# Altium schematic symbol library HW_ADHERENT_SYSCTRL_R1_L3.SchLib: 1629 symbols (part 9 of 31)
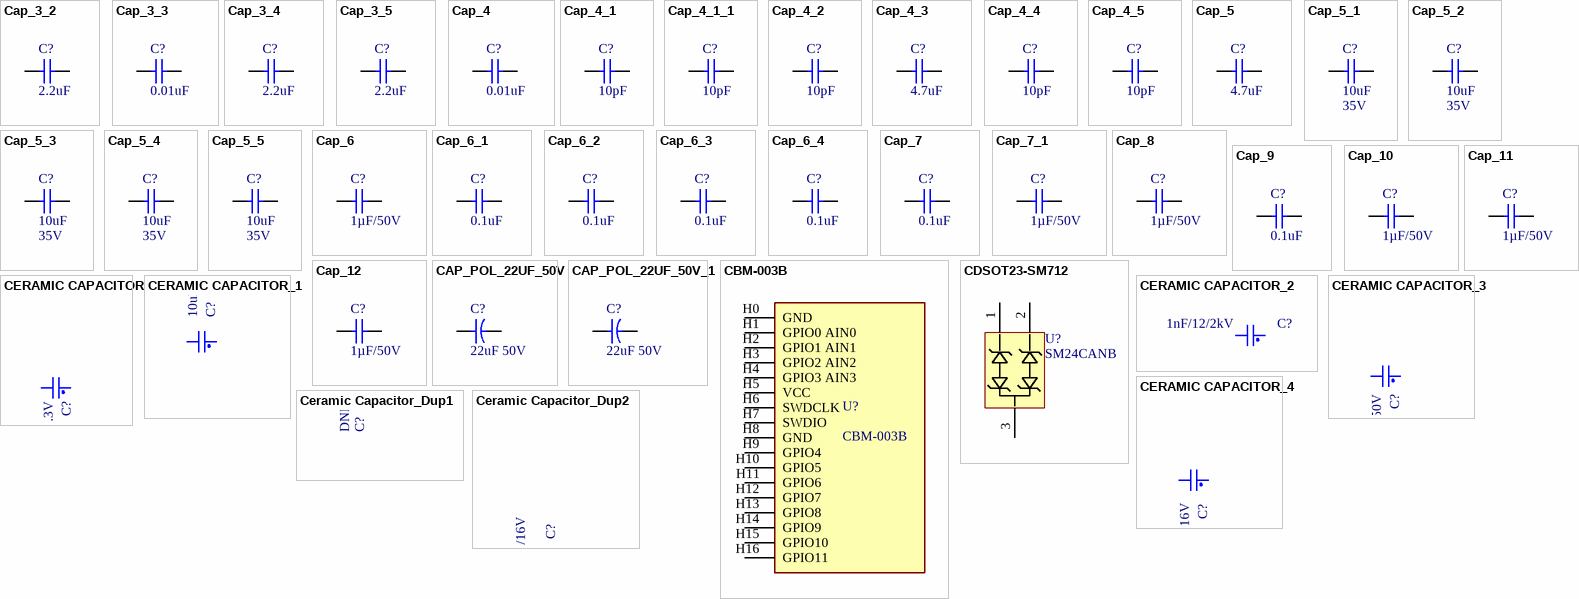
[diagram p59: symbols Cap_3_2 to Ceramic Capacitor_Dup2]

## Cap_5_5
designator C?, comment 10uF  Voltage Rating: 35V
MURATA - GRM319R6YA106KA12D - Condensador de Cerámica Multicapa, 10 µF, 35 V, 1206 [Métrica 3216], ± 10%, X5R, GRM Series; ComponentLink1URL: https://datasheet.ciiva.com/18102/getdatasheetpartid-85307-18102905.pdf?src-supplier=Verical; ComponentLink1Description: https://datasheet.ciiva.com/18102/getdatasheetpartid-85307-18102905.pdf?src-supplier=Verical; ComponentLink2URL: https://datasheet.ciiva.com/129/grm155r71c104ka88-01-129739.pdf?src-supplier=Digi-Key; ComponentLink2Description: https://datasheet.ciiva.com/129/grm155r71c104ka88-01-129739.pdf?src-supplier=Digi-Key; ComponentLink3URL: https://datasheet.ciiva.com/129/grm155r71c104ka88-01-129740.pdf?src-supplier=Digi-Key; ComponentLink3Description: https://datasheet.ciiva.com/129/grm155r71c104ka88-01-129740.pdf?src-supplier=Digi-Key; ComponentLink4URL: https://datasheet.ciiva.com/29199/454098-da-01-en-vs-kondensator-0402-29199799.pdf?src-supplier=Conrad; ComponentLink4Description: https://datasheet.ciiva.com/29199/454098-da-01-en-vs-kondensator-0402-29199799.pdf?src-supplier=Conrad; ComponentLink5URL: https://datasheet.ciiva.com/28534/4360-28534133.pdf?src-supplier=Element14; ComponentLink5Description: https://datasheet.ciiva.com/28534/4360-28534133.pdf?src-supplier=Element14; ComponentLink6URL: https://datasheet.ciiva.com/14103/grmseries-highdielectrictype-eng-14103750.pdf?src-supplier=Distrelec; ComponentLink6Description: https://datasheet.ciiva.com/14103/grmseries-highdielectrictype-eng-14103750.pdf?src-supplier=Distrelec; ComponentLink7URL: https://datasheet.ciiva.com/16199/product-16199000.pdf?src-supplier=Future+Electronics; ComponentLink7Description: https://datasheet.ciiva.com/16199/product-16199000.pdf?src-supplier=Future+Electronics; ComponentLink8URL: https://datasheet.ciiva.com/14116/grmseries-highdielectrictype-eng-14116878.pdf?src-supplier=Distrelec; ComponentLink8Description: https://datasheet.ciiva.com/14116/grmseries-highdielectrictype-eng-14116878.pdf?src-supplier=Distrelec; ComponentLink9URL: https://datasheet.ciiva.com/7937/4360-7937615.pdf?src-supplier=Element14; ComponentLink9Description: https://datasheet.ciiva.com/7937/4360-7937615.pdf?src-supplier=Element14; ComponentLink10URL: https://datasheet.ciiva.com/28534/4360-28534127.pdf?src-supplier=Element14; ComponentLink10Description: https://datasheet.ciiva.com/28534/4360-28534127.pdf?src-supplier=Element14; ComponentLink11URL: http://www.farnell.com/datasheets/2079151.pdf?src-supplier=Farnell; ComponentLink11Description: http://www.farnell.com/datasheets/2079151.pdf?src-supplier=Farnell; ComponentLink12URL: http://www.mouser.com/ds/2/281/c02e-2905.pdf?src-supplier=Mouser; ComponentLink12Description: http://www.mouser.com/ds/2/281/c02e-2905.pdf?src-supplier=Mouser; ComponentLink13URL: http://search.murata.co.jp/Ceramy/image/img/A01X/G101/ENG/GRM155R62A104KE14-01.pdf?src-supplier=Digi-Key; ComponentLink13Description: http://search.murata.co.jp/Ceramy/image/img/A01X/G101/ENG/GRM155R62A104KE14-01.pdf?src-supplier=Digi-Key; ComponentLink14URL: http://www.farnell.com/datasheets/2079151.pdf?src-supplier=Newark; ComponentLink14Description: http://www.farnell.com/datasheets/2079151.pdf?src-supplier=Newark; ComponentLink15URL: http://www.farnell.com/datasheets/2079151.pdf?src-supplier=Element14; ComponentLink15Description: http://www.farnell.com/datasheets/2079151.pdf?src-supplier=Element14; Supplier 1: Digi-Key; Supplier Part Number 1: 490-9964-1-ND; Manufacturer: Murata; Manufacturer Part Number: GRM319R6YA106KA12D; RoHS: Yes; Category: Ceramic Capacitors; Stock 1: 290042; Pricing 1: 1=0,34000, 10=0,23400, 50=0,16380, 100=0,14040, 500=0,10532, 1000=0,08893 (USD); Mount: Surface Mount; Case/Package: 1206; Case Code (Metric): 3216; Case Code (Imperial): 1206; Weight: 0.001411oz; Min Operating Temperature: -55°C; Max Operating Temperature: 85°C; Capacitance: 10uF; Packaging: Tape and Reel; Dielectric: X5R; Tolerance: 10%; Termination: SMD/SMT; Voltage Rating (DC): 35V; Package Quantity: 4000; Length: 0.126inch; Width: 1.6mm; Height: 0.85mm; Thickness: 0.037inch; REACH SVHC: No SVHC; RoHS Compliant: Yes; ComponentLink16URL: http://www.farnell.com/datasheets/2079193.pdf?src-supplier=Farnell; ComponentLink16Description: http://www.farnell.com/datasheets/2079193.pdf?src-supplier=Farnell; ComponentLink17URL: http://search.murata.co.jp/Ceramy/image/img/A01X/G101/ENG/GRM319R6YA106KA12-01.pdf?src-supplier=Digi-Key; ComponentLink17Description: http://search.murata.co.jp/Ceramy/image/img/A01X/G101/ENG/GRM319R6YA106KA12-01.pdf?src-supplier=Digi-Key; ComponentLink18URL: http://www.farnell.com/datasheets/2079193.pdf?src-supplier=Element14; ComponentLink18Description: http://www.farnell.com/datasheets/2079193.pdf?src-supplier=Element14
footprint RAD-0.3 (Radial Cap, Thru-Hole; 2 Leads; 0.3 in Pin Spacing)
simulation model CAP (Capacitor)
signal-integrity model Cap
footprint SMC0603
footprint C 1206(3216)x1.6
pins: 1, 2

## Cap_6
designator C?, comment 1µF/50V
CAP CER 1UF 50V X7R 1206; Manufacturer: KEMET; Manufacturer Part Number: C1206C105K5RAC7800; Value: 1µF/50V; Supplier Part Number: 399-C1206C105K5RAC7800CT-ND
footprint 1206_C (Footprint not found)
pins: 1, 2

## Cap_6_1
designator C?, comment 0.1uF
CAP CER 0.1UF 50V X7R 0402; Manufacturer: TDK Corporation; Manufacturer Part Number: C1005X7R1H104K050BB; Value: 0.1uF; Supplier Part Number: 445-5932-1-ND
footprint 0402_C (MODIFIED BY DN_MH - 16JAN17; CHECKED BY DN_TN - 18JAN17)
pins: 1, 2

## Cap_6_2
designator C?, comment 0.1uF
CAP CER 0.1UF 50V X7R 0402; Manufacturer: TDK Corporation; Manufacturer Part Number: C1005X7R1H104K050BB; Value: 0.1uF; Supplier Part Number: 445-5932-1-ND
footprint 0402_C (MODIFIED BY DN_MH - 16JAN17; CHECKED BY DN_TN - 18JAN17)
pins: 1, 2

## Cap_6_3
designator C?, comment 0.1uF
CAP CER 0.1UF 50V X7R 0402; Manufacturer: TDK Corporation; Manufacturer Part Number: C1005X7R1H104K050BB; Value: 0.1uF; Supplier Part Number: 445-5932-1-ND
footprint 0402_C (MODIFIED BY DN_MH - 16JAN17; CHECKED BY DN_TN - 18JAN17)
pins: 1, 2

## Cap_6_4
designator C?, comment 0.1uF
CAP CER 0.1UF 50V X7R 0402; Manufacturer: TDK Corporation; Manufacturer Part Number: C1005X7R1H104K050BB; Value: 0.1uF; Supplier Part Number: 445-5932-1-ND
footprint 0402_C (MODIFIED BY DN_MH - 16JAN17; CHECKED BY DN_TN - 18JAN17)
pins: 1, 2

## Cap_7
designator C?, comment 0.1uF
CAPACITOR CERAMIC, 0.1UF, 50V, X7R, 10%, 0603; Manufacturer: Yageo; Manufacturer Part Number: CC0603KRX7R9BB104; Capacitance: 100nF; ComponentLink1URL: https://datasheet.ciiva.com/18102/getdatasheetpartid-85307-18102905.pdf?src-supplier=Verical; ComponentLink1Description: https://datasheet.ciiva.com/18102/getdatasheetpartid-85307-18102905.pdf?src-supplier=Verical; ComponentLink2URL: https://datasheet.ciiva.com/129/grm155r71c104ka88-01-129739.pdf?src-supplier=Digi-Key; ComponentLink2Description: https://datasheet.ciiva.com/129/grm155r71c104ka88-01-129739.pdf?src-supplier=Digi-Key; ComponentLink3URL: https://datasheet.ciiva.com/129/grm155r71c104ka88-01-129740.pdf?src-supplier=Digi-Key; ComponentLink3Description: https://datasheet.ciiva.com/129/grm155r71c104ka88-01-129740.pdf?src-supplier=Digi-Key; ComponentLink4URL: https://datasheet.ciiva.com/29199/454098-da-01-en-vs-kondensator-0402-29199799.pdf?src-supplier=Conrad; ComponentLink4Description: https://datasheet.ciiva.com/29199/454098-da-01-en-vs-kondensator-0402-29199799.pdf?src-supplier=Conrad; ComponentLink5URL: https://datasheet.ciiva.com/28534/4360-28534133.pdf?src-supplier=Element14; ComponentLink5Description: https://datasheet.ciiva.com/28534/4360-28534133.pdf?src-supplier=Element14; ComponentLink6URL: https://datasheet.ciiva.com/14103/grmseries-highdielectrictype-eng-14103750.pdf?src-supplier=Distrelec; ComponentLink6Description: https://datasheet.ciiva.com/14103/grmseries-highdielectrictype-eng-14103750.pdf?src-supplier=Distrelec; ComponentLink7URL: https://datasheet.ciiva.com/16199/product-16199000.pdf?src-supplier=Future+Electronics; ComponentLink7Description: https://datasheet.ciiva.com/16199/product-16199000.pdf?src-supplier=Future+Electronics; ComponentLink8URL: https://datasheet.ciiva.com/14116/grmseries-highdielectrictype-eng-14116878.pdf?src-supplier=Distrelec; ComponentLink8Description: https://datasheet.ciiva.com/14116/grmseries-highdielectrictype-eng-14116878.pdf?src-supplier=Distrelec; ComponentLink9URL: https://datasheet.ciiva.com/7937/4360-7937615.pdf?src-supplier=Element14; ComponentLink9Description: https://datasheet.ciiva.com/7937/4360-7937615.pdf?src-supplier=Element14; ComponentLink10URL: https://datasheet.ciiva.com/28534/4360-28534127.pdf?src-supplier=Element14; ComponentLink10Description: https://datasheet.ciiva.com/28534/4360-28534127.pdf?src-supplier=Element14; ComponentLink11URL: http://www.farnell.com/datasheets/2079151.pdf?src-supplier=Farnell; ComponentLink11Description: http://www.farnell.com/datasheets/2079151.pdf?src-supplier=Farnell; ComponentLink12URL: http://www.mouser.com/ds/2/281/c02e-2905.pdf?src-supplier=Mouser; ComponentLink12Description: http://www.mouser.com/ds/2/281/c02e-2905.pdf?src-supplier=Mouser; ComponentLink13URL: http://search.murata.co.jp/Ceramy/image/img/A01X/G101/ENG/GRM155R62A104KE14-01.pdf?src-supplier=Digi-Key; ComponentLink13Description: http://search.murata.co.jp/Ceramy/image/img/A01X/G101/ENG/GRM155R62A104KE14-01.pdf?src-supplier=Digi-Key; ComponentLink14URL: http://www.farnell.com/datasheets/2079151.pdf?src-supplier=Newark; ComponentLink14Description: http://www.farnell.com/datasheets/2079151.pdf?src-supplier=Newark; ComponentLink15URL: http://www.farnell.com/datasheets/2079151.pdf?src-supplier=Element14; ComponentLink15Description: http://www.farnell.com/datasheets/2079151.pdf?src-supplier=Element14; Supplier 1: Digi-Key; Supplier Part Number 1: 311-1344-1-ND; RoHS: Yes; Category: Ceramic Capacitors; Stock 1: 13652525; Pricing 1: 1=0,10000, 10=0,06200, 50=0,03380, 100=0,02760, 500=0,01972, 1000=0,01550 (USD); Mount: Surface Mount; Case/Package: 0603; Number of Pins: 2; Case Code (Metric): 1608; Case Code (Imperial): 0603; Dielectric Material: Ceramic; Min Operating Temperature: -55°C; Max Operating Temperature: 125°C; Package Quantity: 1; Voltage Rating: 50V; Tolerance: 10%; Packaging: Tape and Reel; Dielectric: X7R; Termination: SMD/SMT; Voltage: 50V; Series: CC; Length: 1.6mm; Width: 0.031inch; Height: 0.8mm; Thickness: 0.035inch; Depth: 0.8mm; Radiation Hardening: No; REACH SVHC: No SVHC; Lead Free: Lead Free; Halogen Free: Halogen Free; RoHS Compliant: Yes; ComponentLink16URL: https://datasheet.ciiva.com/11786/0900766b80d84f1d-11786061.pdf?src-supplier=RSComponents; ComponentLink16Description: https://datasheet.ciiva.com/11786/0900766b80d84f1d-11786061.pdf?src-supplier=RSComponents; ComponentLink17URL: https://datasheet.ciiva.com/144/mlccorderingcode-144176.pdf?src-supplier=Digi-Key; ComponentLink17Description: https://datasheet.ciiva.com/144/mlccorderingcode-144176.pdf?src-supplier=Digi-Key; ComponentLink18URL: https://datasheet.ciiva.com/144/mlccorderingcode-144177.pdf?src-supplier=Digi-Key; ComponentLink18Description: https://datasheet.ciiva.com/144/mlccorderingcode-144177.pdf?src-supplier=Digi-Key; ComponentLink19URL: https://datasheet.ciiva.com/144/mlccorderingcode-144178.pdf?src-supplier=Digi-Key; ComponentLink19Description: https://datasheet.ciiva.com/144/mlccorderingcode-144178.pdf?src-supplier=Digi-Key; ComponentLink20URL: https://datasheet.ciiva.com/7978/1489800-7978166.pdf?src-supplier=Element14; ComponentLink20Description: https://datasheet.ciiva.com/7978/1489800-7978166.pdf?src-supplier=Element14; ComponentLink21URL: https://datasheet.ciiva.com/16625/upy-gphc-x7r-6-3v-to-50v-8-16625530.pdf?src-supplier=Avnet+Europe; ComponentLink21Description: https://datasheet.ciiva.com/16625/upy-gphc-x7r-6-3v-to-50v-8-16625530.pdf?src-supplier=Avnet+Europe; ComponentLink22URL: https://datasheet.ciiva.com/8033/70765-8033819.pdf?src-supplier=Element14; ComponentLink22Description: https://datasheet.ciiva.com/8033/70765-8033819.pdf?src-supplier=Element14; ComponentLink23URL: https://datasheet.ciiva.com/8033/70765-8033821.pdf?src-supplier=Element14; ComponentLink23Description: https://datasheet.ciiva.com/8033/70765-8033821.pdf?src-supplier=Element14; ComponentLink24URL: https://datasheet.ciiva.com/22749/1489800-22749214.pdf?src-supplier=Element14; ComponentLink24Description: https://datasheet.ciiva.com/22749/1489800-22749214.pdf?src-supplier=Element14; ComponentLink25URL: https://datasheet.ciiva.com/31394/1489800-31394927.pdf?src-supplier=Farnell; ComponentLink25Description: https://datasheet.ciiva.com/31394/1489800-31394927.pdf?src-supplier=Farnell
footprint RAD-0.3 (Radial Cap, Thru-Hole; 2 Leads; 0.3 in Pin Spacing)
simulation model CAP (Capacitor)
signal-integrity model Cap
footprint SMC0603
footprint C 0603(1608)x0.8_3
pins: 1, 2

## Cap_7_1
designator C?, comment 1µF/50V
CAP CER 1UF 50V X7R 1206; Manufacturer: KEMET; Manufacturer Part Number: C1206C105K5RAC7800; Value: 1µF/50V; Supplier Part Number: 399-C1206C105K5RAC7800CT-ND
footprint 1206_C (Footprint not found)
pins: 1, 2

## Cap_8
designator C?, comment 1µF/50V
CAP CER 1UF 50V X7R 1206; Manufacturer: KEMET; Manufacturer Part Number: C1206C105K5RAC7800; Value: 1µF/50V; Supplier Part Number: 399-C1206C105K5RAC7800CT-ND
footprint 1206_C (Footprint not found)
pins: 1, 2

## Cap_9
designator C?, comment 0.1uF
CAP CER 0.1UF 50V X7R 0402; Manufacturer: TDK Corporation; Manufacturer Part Number: C1005X7R1H104K050BB; Value: 0.1uF; Supplier Part Number: 445-5932-1-ND
footprint 0402_C (MODIFIED BY DN_MH - 16JAN17; CHECKED BY DN_TN - 18JAN17)
pins: 1, 2

## Cap_10
designator C?, comment 1µF/50V
CAP CER 1UF 50V X7R 1206; Manufacturer: KEMET; Manufacturer Part Number: C1206C105K5RAC7800; Value: 1µF/50V; Supplier Part Number: 399-C1206C105K5RAC7800CT-ND
footprint 1206_C (Footprint not found)
pins: 1, 2

## Cap_11
designator C?, comment 1µF/50V
CAP CER 1UF 50V X7R 1206; Manufacturer: KEMET; Manufacturer Part Number: C1206C105K5RAC7800; Value: 1µF/50V; Supplier Part Number: 399-C1206C105K5RAC7800CT-ND
footprint 1206_C (Footprint not found)
pins: 1, 2

## Cap_12
designator C?, comment 1µF/50V
CAP CER 1UF 50V X7R 1206; Manufacturer: KEMET; Manufacturer Part Number: C1206C105K5RAC7800; Value: 1µF/50V; Supplier Part Number: 399-C1206C105K5RAC7800CT-ND
footprint 1206_C (Footprint not found)
pins: 1, 2

## CAP_POL_22UF_50V
designator C?, comment value 22uF 50V  (hidden comment: 22uF 50V ±20% SMD,D6.3xL5.4mm Aluminum Electrolytic Capacitors - SMD ROHS)
Manufacturer Part Number: CS1H220M-CRE54; Order Code: LCSC: C98744; LCSC Manufacturer Part Number: CS1H220M-CRE54; LCSC Part Number: C98744
footprint CAP-SMD_BD6.3-L6.6-W6.6-FD
pins: 1, 2

## CAP_POL_22UF_50V_1
designator C?, comment value 22uF 50V  (hidden comment: 22uF 50V ±20% SMD,D6.3xL5.4mm Aluminum Electrolytic Capacitors - SMD ROHS)
Manufacturer Part Number: CS1H220M-CRE54; Order Code: LCSC: C98744; LCSC Manufacturer Part Number: CS1H220M-CRE54; LCSC Part Number: C98744
footprint CAP-SMD_BD6.3-L6.6-W6.6-FD
pins: 1, 2

## CBM-003B
designator U?
MP: CBM-003B; Check_prices: https://casambi.com/ecosystem/cbm-003/; Manufacturer Part Number: CBM-003B
footprint CBM-003B
pins: H0 GND (power), H1 GPIO0 AIN0, H2 GPIO1 AIN1, H3 GPIO2 AIN2, H4 GPIO3 AIN3, H5 VCC, H6 SWDCLK, H7 SWDIO, H8 GND, H9 GPIO4, H10 GPIO5, H11 GPIO6, H12 GPIO7, H13 GPIO8, H14 GPIO9, H15 GPIO10, H16 GPIO11

## CDSOT23-SM712
designator U?, comment SM24CANB
TVS DIODE 24VWM 50VC SOT23-3; Manufacturer: Littelfuse Inc.; Manufacturer Part Number: SM24CANB-02HTG; Value: SM24CANB; Supplier Part Number: F6707CT-ND
footprint SOT23-3
pins: 1, 2, 3

## CERAMIC CAPACITOR
designator C?, comment 22uF/6/6.3V
Ceramic Capacitor,22uF,6.3V,+/-20%,X5R,0603,Samsung; Manufacturer P/N: CL10A226MQ8NRNC; Myir P/N: 20401.00086; PCB Footprint: C0603; Part Type: Ceramic Capacitor; Manufacturer: Samsung; Reserve Value: 22uF; Datasheet: Samsung.pdf
footprint CAP0805
footprint C0603
pins: 1, 2

## CERAMIC CAPACITOR_1
designator C?, comment 10uF/6/16V
Ceramic Capacitor,10uF,+/-20%,X5R,16V,SMD,0603,Samsung; Manufacturer P/N: CL10A106MO8NQNC; Myir P/N: 20401.80062; PCB Footprint: C0603; Datasheet: Samsung.pdf; Reserve Value: 10uF; Manufacturer: Samsung; Part Type: Ceramic Capacitor
footprint CAP0805
footprint C0603
pins: 1, 2

## CERAMIC CAPACITOR_2
designator C?, comment 1nF/12/2kV
Ceramic Capacitor,1nF,+/-10%,2kV,X7R,SMD,1206,Fenghua; Manufacturer P/N: 1206B102K202NT; PCB Footprint: C1206; Myir P/N: 20401.00078; Datasheet: FENGHUA-Capacitor.pdf; Reserve Value: 1nF; Manufacturer: Fenghua; Part Type: Ceramic Capacitor
footprint CAP0805
footprint C1206
pins: 1, 2

## CERAMIC CAPACITOR_3
designator C?, comment 22pF/4/50V
Ceramic Capacitor,22pF,50V,+/-5%,C0G,0402,Fenghua; Manufacturer P/N: 0402CG220J500NT; Myir P/N: 20401.80101; PCB Footprint: C0402; Part Type: Ceramic Capacitor; Manufacturer: Fenghua; Reserve Value: 22pF; Datasheet: FENGHUA-Capacitor.pdf
footprint CAP0805
footprint C0402
pins: 1, 2

## CERAMIC CAPACITOR_4
designator C?, comment 100nF/4/16V
Ceramic Capacitor,100nF,16V,+/-10%,X7R,0402,Fenghua; Manufacturer P/N: 0402B104K160NT; Myir P/N: 20401.80188; PCB Footprint: C0402; Datasheet: FENGHUA-Capacitor.pdf; Reserve Value: 100nF; Manufacturer: Fenghua; Part Type: Ceramic Capacitor
footprint CAP0805
footprint C0402
pins: 1, 2

## Ceramic Capacitor_Dup1
designator C?, comment DNP
Ceramic Capacitor,100nF,16V,+/-10%,X7R,0402,Fenghua; Manufacturer P/N: 0402B104K160NT; PCB Footprint: C0402; Myir P/N: 20401.80188; Part Type: Ceramic Capacitor; Manufacturer: Fenghua; Reserve Value: 100nF; Datasheet: FENGHUA-Capacitor.pdf
footprint CAP0805
footprint C0402

## Ceramic Capacitor_Dup2
designator C?, comment 100nF/4/16V
Ceramic Capacitor,100nF,16V,+/-10%,X7R,0402,Fenghua; Manufacturer P/N: 0402B104K160NT; Myir P/N: 20401.80188; PCB Footprint: C0402; Part Type: Ceramic Capacitor; Manufacturer: Fenghua; Reserve Value: 100nF; Datasheet: FENGHUA-Capacitor.pdf
footprint CAP0805
footprint C0402

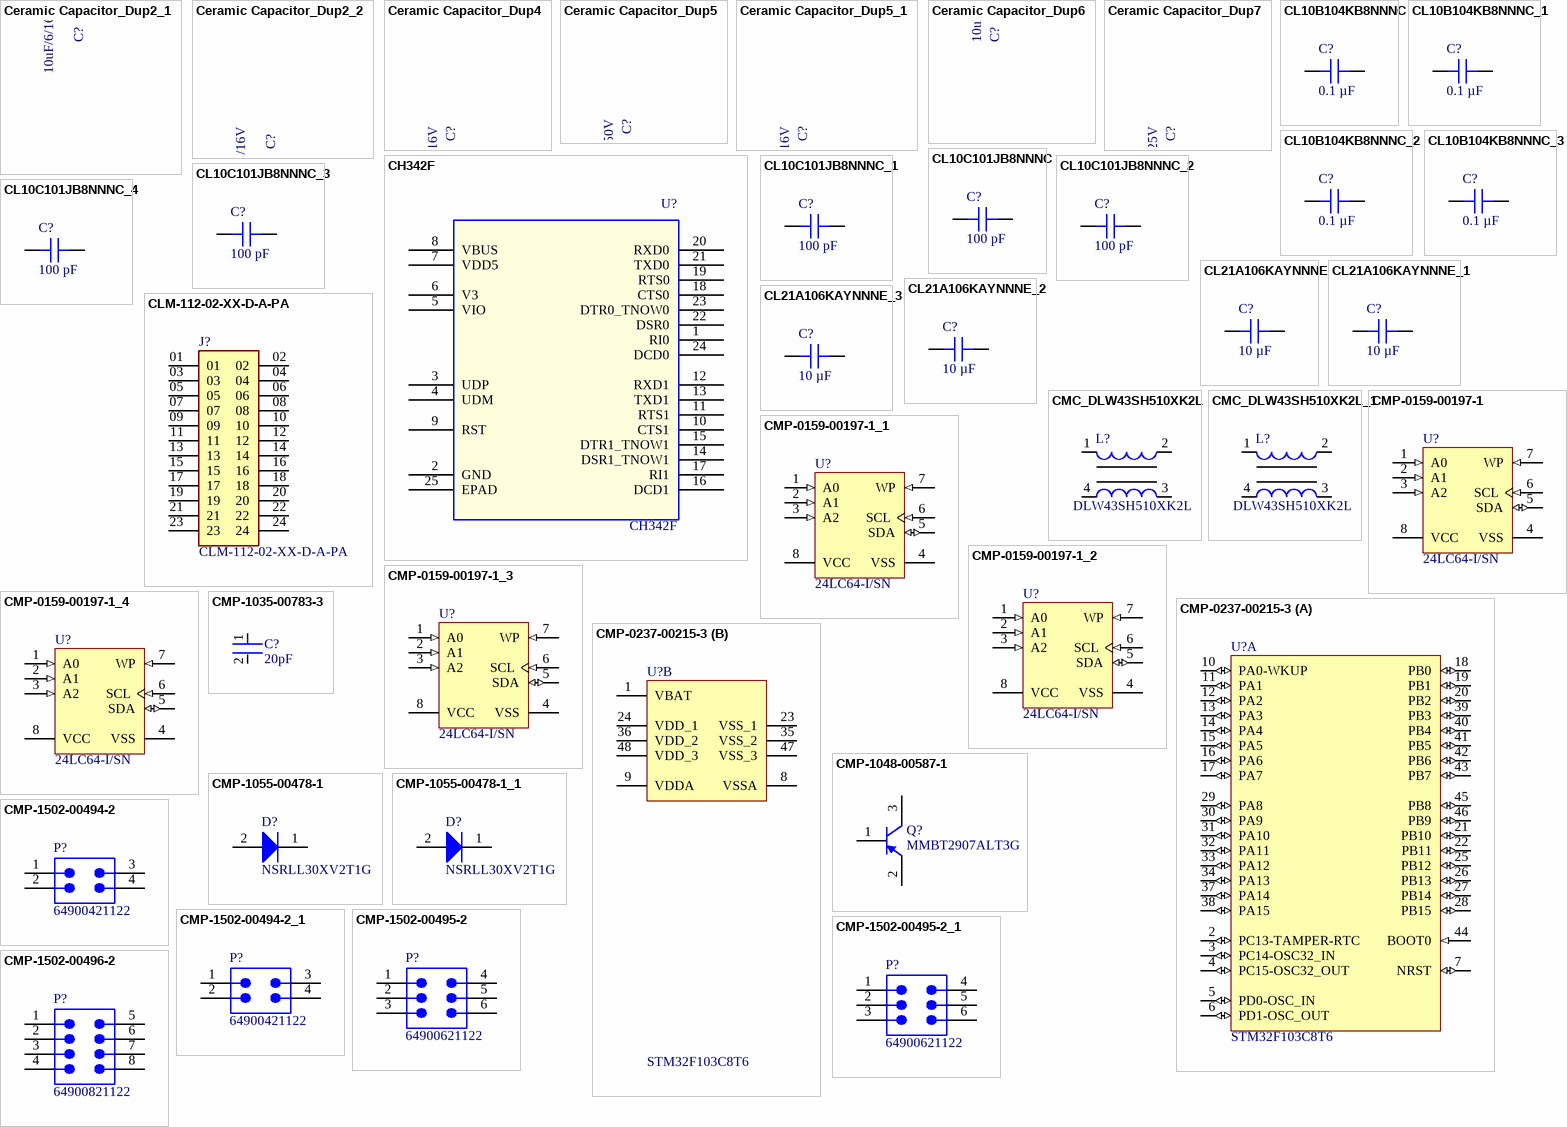
[diagram p12: symbols Ceramic Capacitor_Dup2_1 to CMP-1502-00496-2]

## Ceramic Capacitor_Dup2_1
designator C?, comment 10uF/6/16V
Ceramic Capacitor,10uF,+/-20%,X5R,16V,SMD,0603,Samsung; Manufacturer P/N: CL10A106MO8NQNC; Myir P/N: 20401.80062; PCB Footprint: C0603; Part Type: Ceramic Capacitor; Manufacturer: Samsung; Reserve Value: 10uF; Datasheet: Samsung.pdf
footprint CAP0805
footprint C0603

## Ceramic Capacitor_Dup2_2
designator C?, comment 4.7uF/6/16V
Ceramic Capacitor,4.7uF,+/-10%,X5R,16V,SMT,0603,Samsung; Manufacturer P/N: CL10A475KO8NNNC; Myir P/N: 20401.80066; PCB Footprint: C0603; Datasheet: Samsung.pdf; Reserve Value: 4.7uF; Manufacturer: Samsung; Part Type: Ceramic Capacitor
footprint CAP0805
footprint C0603

## Ceramic Capacitor_Dup4
designator C?, comment 100nF/4/16V
Ceramic Capacitor,100nF,16V,+/-10%,X7R,0402,Fenghua; Manufacturer P/N: 0402B104K160NT; Myir P/N: 20401.80188; PCB Footprint: C0402; Part Type: Ceramic Capacitor; Manufacturer: Fenghua; Reserve Value: 100nF; Datasheet: FENGHUA-Capacitor.pdf
footprint CAP0805
footprint C0402

## Ceramic Capacitor_Dup5
designator C?, comment 33pF/4/50V
Ceramic Capacitor,33pF,50V,+/-5%,C0G,0402,Fenghua; Manufacturer P/N: 0402CG330J500NT; Myir P/N: 20401.00091; PCB Footprint: C0402; Datasheet: FENGHUA-Capacitor.pdf; Reserve Value: 33pF; Manufacturer: Fenghua; Part Type: Ceramic Capacitor
footprint CAP0805
footprint C0402

## Ceramic Capacitor_Dup5_1
designator C?, comment 100nF/4/16V
Ceramic Capacitor,100nF,16V,+/-10%,X7R,0402,Fenghua; Manufacturer P/N: 0402B104K160NT; PCB Footprint: C0402; Myir P/N: 20401.80188; Part Type: Ceramic Capacitor; Manufacturer: Fenghua; Reserve Value: 100nF; Datasheet: FENGHUA-Capacitor.pdf
footprint CAP0805
footprint C0402

## Ceramic Capacitor_Dup6
designator C?, comment 10uF/6/16V
Ceramic Capacitor,10uF,+/-20%,X5R,16V,SMD,0603,Samsung; Manufacturer P/N: CL10A106MO8NQNC; PCB Footprint: C0603; Myir P/N: 20401.80062; Part Type: Ceramic Capacitor; Manufacturer: Samsung; Reserve Value: 10uF; Datasheet: Samsung.pdf
footprint CAP0805
footprint C0603

## Ceramic Capacitor_Dup7
designator C?, comment 22uF/12/25V
Ceramic Capacitor,22uF,25V,+/-10%,X5R,1206,Samsung; Manufacturer P/N: CL31A226KAHNNNE; Myir P/N: 20401.00064; PCB Footprint: C1206; Datasheet: Samsung.pdf; Reserve Value: 22uF; Manufacturer: Samsung; Part Type: Ceramic Capacitor
footprint CAP0805
footprint C1206

## CH342F
designator U?
IC,USB2.0 to Dual UART Ports,-40¡æ~+85¡æ,Industrial,SMD,QFN24,CH342F,Qinheng Micro; PCB Footprint: QFN24-0_5; Myir P/N: 20107.00089; Part Type: Interface; Manufacturer: Qinheng Micro; Manufacturer P/N: CH342F; Reserve Value: CH342F; Datasheet: CH342DS1.pdf
footprint QFN24_4*4
footprint QFN24-0_5
pins: 1 RI0, 2 GND, 3 UDP, 4 UDM, 5 VIO, 6 V3, 7 VDD5, 8 VBUS, 9 RST, 10 CTS1, 11 RTS1, 12 RXD1, 13 TXD1, 14 DSR1_TNOW1, 15 DTR1_TNOW1, 16 DCD1, 17 RI1, 18 CTS0, 19 RTS0, 20 RXD0, 21 TXD0, 22 DSR0, 23 DTR0_TNOW0, 24 DCD0, 25 EPAD (power)

## CL10B104KB8NNNC
designator C?, comment 0.1 µF
CAP CER 0.1UF 50V X7R 0603; Part Number: CL10B104KB8NNNC; manufacturer: Samsung Electro-Mechanics; Tolerance: ±10%; Value: 0.1 µF; Applications: General Purpose; Capacitance: 0.1 µF; componentlink1description: Datasheet; componentlink1url: http://www.samsungsem.com/kr/support/product-search/mlcc/CL10B104KB8NNNC.jsp; componentlink2description: DigiKey Link; componentlink2url: https://www.digikey.com/en/products/detail/samsung-electro-mechanics/CL10B104KB8NNNC/3886658; Device Package: 0603 (1608 Metric); lastupdated: 2/9/2024 8:10:20 PM; Lifecycle Status: Active; Minimum Order: 1; Mounting Type: Surface Mount, MLCC; Operating Temperature: -55°C ~ 125°C; Package / Case: 0603 (1608 Metric); packaging: TapeAndReel; partid: 9788; Part Status: Active; price: 0.01; series: CL; Size / Dimension: 0.063" L x 0.031" W (1.60mm x 0.80mm); Supplier 1: DigiKey; Supplier Part Number 1: 1276-1000-1-ND; Temperature Coefficient: X7R; Thickness (Max): 0.035" (0.90mm); Voltage - Rated: 50V
footprint CAP 0603_1608
pins: 1, 2

## CL10B104KB8NNNC_1
designator C?, comment 0.1 µF
CAP CER 0.1UF 50V X7R 0603; Part Number: CL10B104KB8NNNC; manufacturer: Samsung Electro-Mechanics; Tolerance: ±10%; Value: 0.1 µF; Applications: General Purpose; Capacitance: 0.1 µF; componentlink1description: Datasheet; componentlink1url: http://www.samsungsem.com/kr/support/product-search/mlcc/CL10B104KB8NNNC.jsp; componentlink2description: DigiKey Link; componentlink2url: https://www.digikey.com/en/products/detail/samsung-electro-mechanics/CL10B104KB8NNNC/3886658; Device Package: 0603 (1608 Metric); lastupdated: 2/9/2024 8:10:20 PM; Lifecycle Status: Active; Minimum Order: 1; Mounting Type: Surface Mount, MLCC; Operating Temperature: -55°C ~ 125°C; Package / Case: 0603 (1608 Metric); packaging: TapeAndReel; partid: 9788; Part Status: Active; price: 0.01; series: CL; Size / Dimension: 0.063" L x 0.031" W (1.60mm x 0.80mm); Supplier 1: DigiKey; Supplier Part Number 1: 1276-1000-1-ND; Temperature Coefficient: X7R; Thickness (Max): 0.035" (0.90mm); Voltage - Rated: 50V
footprint CAP 0603_1608
pins: 1, 2

## CL10B104KB8NNNC_2
designator C?, comment 0.1 µF
CAP CER 0.1UF 50V X7R 0603; Part Number: CL10B104KB8NNNC; manufacturer: Samsung Electro-Mechanics; Tolerance: ±10%; Value: 0.1 µF; Applications: General Purpose; Capacitance: 0.1 µF; componentlink1description: Datasheet; componentlink1url: http://www.samsungsem.com/kr/support/product-search/mlcc/CL10B104KB8NNNC.jsp; componentlink2description: DigiKey Link; componentlink2url: https://www.digikey.com/en/products/detail/samsung-electro-mechanics/CL10B104KB8NNNC/3886658; Device Package: 0603 (1608 Metric); lastupdated: 2/9/2024 8:10:20 PM; Lifecycle Status: Active; Minimum Order: 1; Mounting Type: Surface Mount, MLCC; Operating Temperature: -55°C ~ 125°C; Package / Case: 0603 (1608 Metric); packaging: TapeAndReel; partid: 9788; Part Status: Active; price: 0.01; series: CL; Size / Dimension: 0.063" L x 0.031" W (1.60mm x 0.80mm); Supplier 1: DigiKey; Supplier Part Number 1: 1276-1000-1-ND; Temperature Coefficient: X7R; Thickness (Max): 0.035" (0.90mm); Voltage - Rated: 50V
footprint CAP 0603_1608
pins: 1, 2

## CL10B104KB8NNNC_3
designator C?, comment 0.1 µF
CAP CER 0.1UF 50V X7R 0603; Part Number: CL10B104KB8NNNC; manufacturer: Samsung Electro-Mechanics; Tolerance: ±10%; Value: 0.1 µF; Applications: General Purpose; Capacitance: 0.1 µF; componentlink1description: Datasheet; componentlink1url: http://www.samsungsem.com/kr/support/product-search/mlcc/CL10B104KB8NNNC.jsp; componentlink2description: DigiKey Link; componentlink2url: https://www.digikey.com/en/products/detail/samsung-electro-mechanics/CL10B104KB8NNNC/3886658; Device Package: 0603 (1608 Metric); lastupdated: 2/9/2024 8:10:20 PM; Lifecycle Status: Active; Minimum Order: 1; Mounting Type: Surface Mount, MLCC; Operating Temperature: -55°C ~ 125°C; Package / Case: 0603 (1608 Metric); packaging: TapeAndReel; partid: 9788; Part Status: Active; price: 0.01; series: CL; Size / Dimension: 0.063" L x 0.031" W (1.60mm x 0.80mm); Supplier 1: DigiKey; Supplier Part Number 1: 1276-1000-1-ND; Temperature Coefficient: X7R; Thickness (Max): 0.035" (0.90mm); Voltage - Rated: 50V
footprint CAP 0603_1608
pins: 1, 2

## CL10C101JB8NNNC
designator C?, comment 100 pF
CAP CER 100PF 50V C0G/NP0 0603; Part Number: CL10C101JB8NNNC; manufacturer: Samsung Electro-Mechanics; Temperature Coefficient: C0G, NP0; Tolerance: ±5%; Value: 100 pF; Applications: General Purpose; Capacitance: 100 pF; componentlink1description: Datasheet; componentlink1url: http://www.samsungsem.com/kr/support/product-search/mlcc/CL10C101JB8NNNC.jsp; componentlink2description: DigiKey Link; componentlink2url: https://www.digikey.com/en/products/detail/samsung-electro-mechanics/CL10C101JB8NNNC/3886666; Device Package: 0603 (1608 Metric); lastupdated: 2/9/2024 8:10:20 PM; Lifecycle Status: Active; Minimum Order: 1; Mounting Type: Surface Mount, MLCC; Operating Temperature: -55°C ~ 125°C; Package / Case: 0603 (1608 Metric); packaging: TapeAndReel; partid: 9903; Part Status: Active; price: 0.01; series: CL; Size / Dimension: 0.063" L x 0.031" W (1.60mm x 0.80mm); Supplier 1: DigiKey; Supplier Part Number 1: 1276-1008-1-ND; Thickness (Max): 0.035" (0.90mm); Voltage - Rated: 50V
footprint CAP 0603_1608
pins: 1, 2

## CL10C101JB8NNNC_1
designator C?, comment 100 pF
CAP CER 100PF 50V C0G/NP0 0603; Part Number: CL10C101JB8NNNC; manufacturer: Samsung Electro-Mechanics; Temperature Coefficient: C0G, NP0; Tolerance: ±5%; Value: 100 pF; Applications: General Purpose; Capacitance: 100 pF; componentlink1description: Datasheet; componentlink1url: http://www.samsungsem.com/kr/support/product-search/mlcc/CL10C101JB8NNNC.jsp; componentlink2description: DigiKey Link; componentlink2url: https://www.digikey.com/en/products/detail/samsung-electro-mechanics/CL10C101JB8NNNC/3886666; Device Package: 0603 (1608 Metric); lastupdated: 2/9/2024 8:10:20 PM; Lifecycle Status: Active; Minimum Order: 1; Mounting Type: Surface Mount, MLCC; Operating Temperature: -55°C ~ 125°C; Package / Case: 0603 (1608 Metric); packaging: TapeAndReel; partid: 9903; Part Status: Active; price: 0.01; series: CL; Size / Dimension: 0.063" L x 0.031" W (1.60mm x 0.80mm); Supplier 1: DigiKey; Supplier Part Number 1: 1276-1008-1-ND; Thickness (Max): 0.035" (0.90mm); Voltage - Rated: 50V
footprint CAP 0603_1608
pins: 1, 2

## CL10C101JB8NNNC_2
designator C?, comment 100 pF
CAP CER 100PF 50V C0G/NP0 0603; Part Number: CL10C101JB8NNNC; manufacturer: Samsung Electro-Mechanics; Temperature Coefficient: C0G, NP0; Tolerance: ±5%; Value: 100 pF; Applications: General Purpose; Capacitance: 100 pF; componentlink1description: Datasheet; componentlink1url: http://www.samsungsem.com/kr/support/product-search/mlcc/CL10C101JB8NNNC.jsp; componentlink2description: DigiKey Link; componentlink2url: https://www.digikey.com/en/products/detail/samsung-electro-mechanics/CL10C101JB8NNNC/3886666; Device Package: 0603 (1608 Metric); lastupdated: 2/9/2024 8:10:20 PM; Lifecycle Status: Active; Minimum Order: 1; Mounting Type: Surface Mount, MLCC; Operating Temperature: -55°C ~ 125°C; Package / Case: 0603 (1608 Metric); packaging: TapeAndReel; partid: 9903; Part Status: Active; price: 0.01; series: CL; Size / Dimension: 0.063" L x 0.031" W (1.60mm x 0.80mm); Supplier 1: DigiKey; Supplier Part Number 1: 1276-1008-1-ND; Thickness (Max): 0.035" (0.90mm); Voltage - Rated: 50V
footprint CAP 0603_1608
pins: 1, 2

## CL10C101JB8NNNC_3
designator C?, comment 100 pF
CAP CER 100PF 50V C0G/NP0 0603; Part Number: CL10C101JB8NNNC; manufacturer: Samsung Electro-Mechanics; Temperature Coefficient: C0G, NP0; Tolerance: ±5%; Value: 100 pF; Applications: General Purpose; Capacitance: 100 pF; componentlink1description: Datasheet; componentlink1url: http://www.samsungsem.com/kr/support/product-search/mlcc/CL10C101JB8NNNC.jsp; componentlink2description: DigiKey Link; componentlink2url: https://www.digikey.com/en/products/detail/samsung-electro-mechanics/CL10C101JB8NNNC/3886666; Device Package: 0603 (1608 Metric); lastupdated: 2/9/2024 8:10:20 PM; Lifecycle Status: Active; Minimum Order: 1; Mounting Type: Surface Mount, MLCC; Operating Temperature: -55°C ~ 125°C; Package / Case: 0603 (1608 Metric); packaging: TapeAndReel; partid: 9903; Part Status: Active; price: 0.01; series: CL; Size / Dimension: 0.063" L x 0.031" W (1.60mm x 0.80mm); Supplier 1: DigiKey; Supplier Part Number 1: 1276-1008-1-ND; Thickness (Max): 0.035" (0.90mm); Voltage - Rated: 50V
footprint CAP 0603_1608
pins: 1, 2

## CL10C101JB8NNNC_4
designator C?, comment 100 pF
CAP CER 100PF 50V C0G/NP0 0603; Part Number: CL10C101JB8NNNC; manufacturer: Samsung Electro-Mechanics; Temperature Coefficient: C0G, NP0; Tolerance: ±5%; Value: 100 pF; Applications: General Purpose; Capacitance: 100 pF; componentlink1description: Datasheet; componentlink1url: http://www.samsungsem.com/kr/support/product-search/mlcc/CL10C101JB8NNNC.jsp; componentlink2description: DigiKey Link; componentlink2url: https://www.digikey.com/en/products/detail/samsung-electro-mechanics/CL10C101JB8NNNC/3886666; Device Package: 0603 (1608 Metric); lastupdated: 2/9/2024 8:10:20 PM; Lifecycle Status: Active; Minimum Order: 1; Mounting Type: Surface Mount, MLCC; Operating Temperature: -55°C ~ 125°C; Package / Case: 0603 (1608 Metric); packaging: TapeAndReel; partid: 9903; Part Status: Active; price: 0.01; series: CL; Size / Dimension: 0.063" L x 0.031" W (1.60mm x 0.80mm); Supplier 1: DigiKey; Supplier Part Number 1: 1276-1008-1-ND; Thickness (Max): 0.035" (0.90mm); Voltage - Rated: 50V
footprint CAP 0603_1608
pins: 1, 2

## CL21A106KAYNNNE
designator C?, comment 10 µF
CAP CER 10UF 25V X5R 0805; Part Number: CL21A106KAYNNNE; manufacturer: Samsung Electro-Mechanics; Tolerance: ±10%; Value: 10 µF; Applications: General Purpose; Capacitance: 10 µF; componentlink1description: Datasheet; componentlink1url: http://www.samsungsem.com/kr/support/product-search/mlcc/CL21A106KAYNNNE.jsp; componentlink2description: DigiKey Link; componentlink2url: https://www.digikey.com/en/products/detail/samsung-electro-mechanics/CL21A106KAYNNNE/3888549; Device Package: 0805 (2012 Metric); lastupdated: 2/9/2024 8:15:41 PM; Lifecycle Status: Active; Minimum Order: 1; Mounting Type: Surface Mount, MLCC; Operating Temperature: -55°C ~ 85°C; Package / Case: 0805 (2012 Metric); packaging: TapeAndReel; partid: 13105; Part Status: Active; price: 0.02; series: CL; Size / Dimension: 0.079" L x 0.049" W (2.00mm x 1.25mm); Supplier 1: DigiKey; Supplier Part Number 1: 1276-2891-1-ND; Temperature Coefficient: X5R; Thickness (Max): 0.057" (1.45mm); Voltage - Rated: 25V
footprint CAP 0805_2012
pins: 1, 2

## CL21A106KAYNNNE_1
designator C?, comment 10 µF
CAP CER 10UF 25V X5R 0805; Part Number: CL21A106KAYNNNE; manufacturer: Samsung Electro-Mechanics; Tolerance: ±10%; Value: 10 µF; Applications: General Purpose; Capacitance: 10 µF; componentlink1description: Datasheet; componentlink1url: http://www.samsungsem.com/kr/support/product-search/mlcc/CL21A106KAYNNNE.jsp; componentlink2description: DigiKey Link; componentlink2url: https://www.digikey.com/en/products/detail/samsung-electro-mechanics/CL21A106KAYNNNE/3888549; Device Package: 0805 (2012 Metric); lastupdated: 2/9/2024 8:15:41 PM; Lifecycle Status: Active; Minimum Order: 1; Mounting Type: Surface Mount, MLCC; Operating Temperature: -55°C ~ 85°C; Package / Case: 0805 (2012 Metric); packaging: TapeAndReel; partid: 13105; Part Status: Active; price: 0.02; series: CL; Size / Dimension: 0.079" L x 0.049" W (2.00mm x 1.25mm); Supplier 1: DigiKey; Supplier Part Number 1: 1276-2891-1-ND; Temperature Coefficient: X5R; Thickness (Max): 0.057" (1.45mm); Voltage - Rated: 25V
footprint CAP 0805_2012
pins: 1, 2

## CL21A106KAYNNNE_2
designator C?, comment 10 µF
CAP CER 10UF 25V X5R 0805; Part Number: CL21A106KAYNNNE; manufacturer: Samsung Electro-Mechanics; Tolerance: ±10%; Value: 10 µF; Applications: General Purpose; Capacitance: 10 µF; componentlink1description: Datasheet; componentlink1url: http://www.samsungsem.com/kr/support/product-search/mlcc/CL21A106KAYNNNE.jsp; componentlink2description: DigiKey Link; componentlink2url: https://www.digikey.com/en/products/detail/samsung-electro-mechanics/CL21A106KAYNNNE/3888549; Device Package: 0805 (2012 Metric); lastupdated: 2/9/2024 8:15:41 PM; Lifecycle Status: Active; Minimum Order: 1; Mounting Type: Surface Mount, MLCC; Operating Temperature: -55°C ~ 85°C; Package / Case: 0805 (2012 Metric); packaging: TapeAndReel; partid: 13105; Part Status: Active; price: 0.02; series: CL; Size / Dimension: 0.079" L x 0.049" W (2.00mm x 1.25mm); Supplier 1: DigiKey; Supplier Part Number 1: 1276-2891-1-ND; Temperature Coefficient: X5R; Thickness (Max): 0.057" (1.45mm); Voltage - Rated: 25V
footprint CAP 0805_2012
pins: 1, 2

## CL21A106KAYNNNE_3
designator C?, comment 10 µF
CAP CER 10UF 25V X5R 0805; Part Number: CL21A106KAYNNNE; manufacturer: Samsung Electro-Mechanics; Tolerance: ±10%; Value: 10 µF; Applications: General Purpose; Capacitance: 10 µF; componentlink1description: Datasheet; componentlink1url: http://www.samsungsem.com/kr/support/product-search/mlcc/CL21A106KAYNNNE.jsp; componentlink2description: DigiKey Link; componentlink2url: https://www.digikey.com/en/products/detail/samsung-electro-mechanics/CL21A106KAYNNNE/3888549; Device Package: 0805 (2012 Metric); lastupdated: 2/9/2024 8:15:41 PM; Lifecycle Status: Active; Minimum Order: 1; Mounting Type: Surface Mount, MLCC; Operating Temperature: -55°C ~ 85°C; Package / Case: 0805 (2012 Metric); packaging: TapeAndReel; partid: 13105; Part Status: Active; price: 0.02; series: CL; Size / Dimension: 0.079" L x 0.049" W (2.00mm x 1.25mm); Supplier 1: DigiKey; Supplier Part Number 1: 1276-2891-1-ND; Temperature Coefficient: X5R; Thickness (Max): 0.057" (1.45mm); Voltage - Rated: 25V
footprint CAP 0805_2012
pins: 1, 2

## CLM-112-02-XX-D-A-PA
designator J?
24 Position Receptacle, Bottom Entry Connector Surface Mount; Manufacturer Part Number: CLM-112-02-G-D-A; Availability: Unavailable; Value: *; Price: None; Package: None
footprint SAMTEC_CLM-112-02-XX-D-A-PA
pins: 01, 02, 03, 04, 05, 06, 07, 08, 09, 10, 11, 12, 13, 14, 15, 16, 17, 18, 19, 20, 21, 22, 23, 24

## CMC_DLW43SH510XK2L
designator L?  Manufacturer Part Number: DLW43SH510XK2L  (hidden comment: CMC_DLW43SH510XK2L)
CMC 51UH 230MA 2LN SMD AEC-Q200; Value: 51uH; LCSC Part Number: C91595
footprint CMC_DLW43SH510XK2L
pins: 1, 2, 3, 4

## CMC_DLW43SH510XK2L_1
designator L?, comment Manufacturer Part Number: DLW43SH510XK2L  (hidden comment: CMC_DLW43SH510XK2L)
CMC 51UH 230MA 2LN SMD AEC-Q200; Value: 51uH; LCSC Part Number: C91595
footprint CMC_DLW43SH510XK2L
pins: 1, 2, 3, 4

## CMP-0159-00197-1
designator U?, comment 24LC64-I/SN
64Kbit, 400kHz, 2.5V, I2C Serial EEPROM, 8-Pin SOIC 150mil, Industrial Temperature; PackageDescription: 8-Lead Plastic Small Outline (SN) - Narrow, 3.90mm Body [SOIC]; PackageReference: SOIC-SN8; Code_JEDEC: MS-012; PackageVersion: revBB, Aug-2009; Code_IPC: SOIC127P600-8; DatasheetVersion: revQ, Jun-2009; Manufacturer Part Number: 24LC64-I/SN
footprint SOIC-SN8_L (SOIC, 8-Leads, Body 4.9x3.8mm, Pitch 1.27mm, IPC High Density)
footprint SOIC-SN8_N (SOIC, 8-Leads, Body 4.9x3.8mm, Pitch 1.27mm, IPC Medium Density)
footprint SOIC-SN8_M (SOIC, 8-Leads, Body 4.9x3.8mm, Pitch 1.27mm, IPC Low Density)
pins: 1 A0 (in), 2 A1 (in), 3 A2 (in), 4 VSS (power), 5 SDA (io), 6 SCL (in), 7 WP (in), 8 VCC (power)

## CMP-0159-00197-1_1
designator U?, comment 24LC64-I/SN
64Kbit, 400kHz, 2.5V, I2C Serial EEPROM, 8-Pin SOIC 150mil, Industrial Temperature; PackageDescription: 8-Lead Plastic Small Outline (SN) - Narrow, 3.90mm Body [SOIC]; PackageReference: SOIC-SN8; Code_JEDEC: MS-012; PackageVersion: revBB, Aug-2009; Code_IPC: SOIC127P600-8; DatasheetVersion: revQ, Jun-2009
footprint SOIC-SN8_L (SOIC, 8-Leads, Body 4.9x3.8mm, Pitch 1.27mm, IPC High Density)
footprint SOIC-SN8_N (SOIC, 8-Leads, Body 4.9x3.8mm, Pitch 1.27mm, IPC Medium Density)
footprint SOIC-SN8_M (SOIC, 8-Leads, Body 4.9x3.8mm, Pitch 1.27mm, IPC Low Density)
pins: 1 A0 (in), 2 A1 (in), 3 A2 (in), 4 VSS (power), 5 SDA (io), 6 SCL (in), 7 WP (in), 8 VCC (power)

## CMP-0159-00197-1_2
designator U?, comment 24LC64-I/SN
64Kbit, 400kHz, 2.5V, I2C Serial EEPROM, 8-Pin SOIC 150mil, Industrial Temperature; PackageDescription: 8-Lead Plastic Small Outline (SN) - Narrow, 3.90mm Body [SOIC]; PackageReference: SOIC-SN8; Code_JEDEC: MS-012; PackageVersion: revBB, Aug-2009; Code_IPC: SOIC127P600-8; DatasheetVersion: revQ, Jun-2009
footprint SOIC-SN8_L (SOIC, 8-Leads, Body 4.9x3.8mm, Pitch 1.27mm, IPC High Density)
footprint SOIC-SN8_N (SOIC, 8-Leads, Body 4.9x3.8mm, Pitch 1.27mm, IPC Medium Density)
footprint SOIC-SN8_M (SOIC, 8-Leads, Body 4.9x3.8mm, Pitch 1.27mm, IPC Low Density)
pins: 1 A0 (in), 2 A1 (in), 3 A2 (in), 4 VSS (power), 5 SDA (io), 6 SCL (in), 7 WP (in), 8 VCC (power)

## CMP-0159-00197-1_3
designator U?, comment 24LC64-I/SN
64Kbit, 400kHz, 2.5V, I2C Serial EEPROM, 8-Pin SOIC 150mil, Industrial Temperature; PackageDescription: 8-Lead Plastic Small Outline (SN) - Narrow, 3.90mm Body [SOIC]; PackageReference: SOIC-SN8; Code_JEDEC: MS-012; PackageVersion: revBB, Aug-2009; Code_IPC: SOIC127P600-8; DatasheetVersion: revQ, Jun-2009
footprint SOIC-SN8_L (SOIC, 8-Leads, Body 4.9x3.8mm, Pitch 1.27mm, IPC High Density)
footprint SOIC-SN8_N (SOIC, 8-Leads, Body 4.9x3.8mm, Pitch 1.27mm, IPC Medium Density)
footprint SOIC-SN8_M (SOIC, 8-Leads, Body 4.9x3.8mm, Pitch 1.27mm, IPC Low Density)
pins: 1 A0 (in), 2 A1 (in), 3 A2 (in), 4 VSS (power), 5 SDA (io), 6 SCL (in), 7 WP (in), 8 VCC (power)

## CMP-0159-00197-1_4
designator U?, comment 24LC64-I/SN
64Kbit, 400kHz, 2.5V, I2C Serial EEPROM, 8-Pin SOIC 150mil, Industrial Temperature; PackageDescription: 8-Lead Plastic Small Outline (SN) - Narrow, 3.90mm Body [SOIC]; PackageReference: SOIC-SN8; Code_JEDEC: MS-012; PackageVersion: revBB, Aug-2009; Code_IPC: SOIC127P600-8; DatasheetVersion: revQ, Jun-2009
footprint SOIC-SN8_L (SOIC, 8-Leads, Body 4.9x3.8mm, Pitch 1.27mm, IPC High Density)
footprint SOIC-SN8_N (SOIC, 8-Leads, Body 4.9x3.8mm, Pitch 1.27mm, IPC Medium Density)
footprint SOIC-SN8_M (SOIC, 8-Leads, Body 4.9x3.8mm, Pitch 1.27mm, IPC Low Density)
pins: 1 A0 (in), 2 A1 (in), 3 A2 (in), 4 VSS (power), 5 SDA (io), 6 SCL (in), 7 WP (in), 8 VCC (power)

## CMP-0237-00215-3
designator U?, comment STM32F103C8T6
ARM Cortex-M3 32-bit MCU, 64 KB Flash, 20 KB Internal RAM, 37 I/Os, 48-pin LQFP, -40 to 85 degC, Tray; Supply Voltage(Vcc) min (V): 2; Internal RAM Size (kB): 20; FLASH Size (Prog) (kB): 64; A/D Converter: 2x12-bit (10 Channel); I/Os (High Current): 37; Operating Frequency(F) (Processor speed) (MHz): 72; Core: ARM Cortex-M3; ComponentLink3Description: Package Specification; Mounting Technology: Surface Mount; PartNumber: STM32F103C8T6; PackageReference: LQFP48; Packing: Tray; ComponentLink3URL: http://www.st.com/st-web-ui/static/active/en/resource/technical/document/datasheet/DM00058181.pdf; DatasheetVersion: Rev. 16; ComponentLink1URL: http://www.st.com/web/en/home.html; PackageVersion: Rev. 6, 06/2013; ComponentLink2URL: http://www.st.com/st-web-ui/static/active/en/resource/technical/document/datasheet/CD00161566.pdf; ComponentLink1Description: Manufacturer URL; ComponentLink2Description: Datasheet; PackageDescription: 48-Pin Low Profile Quad Flat Package, 7 x 7 mm Body, 0.5 mm Pitch
footprint STM-LQFP48_L (QFP, 48-Leads, Body 7x7mm, Pitch 0.5mm, IPC High Density)
footprint STM-LQFP48_N (QFP, 48-Leads, Body 7x7mm, Pitch 0.5mm, IPC Medium Density)
footprint STM-LQFP48_M (QFP, 48-Leads, Body 7x7mm, Pitch 0.5mm, IPC Low Density)
part A pins: 2 PC13-TAMPER-RTC (io) "PC13-TAMPER-RTC/PC13/TAMPER-RTC", 3 PC14-OSC32_IN (io) "PC14-OSC32_IN/PC14/OSC32_IN", 4 PC15-OSC32_OUT (io) "PC15-OSC32_OUT/PC15/OSC32_OUT", 5 PD0-OSC_IN (io) "PD0/OSC_IN", 6 PD1-OSC_OUT (io) "PD1/OSC_OUT", 7 NRST (io), 10 PA0-WKUP (io) "PA0-WKUP/PA0/WKUP/USART2_CTS/ADC12_IN0/TIM2_CH1_ETR", 11 PA1 (io) "PA1/USART2_RTS/ADC12_IN1/TIM2_CH2", 12 PA2 (io) "PA2/USART2_TX/ADC12_IN2/TIM2_CH3", 13 PA3 (io) "PA3/USART2_RX/ADC12_IN3/TIM2_CH4", 14 PA4 (io) "PA4/SPI1_NSS/USART2_CK/ADC12_IN4", 15 PA5 (io) "PA5/SPI1_SCK/ADC12_IN5", 16 PA6 (io) "PA6/SPI1_MISO/ADC12_IN6/TIM3_CH1/TIM1_BKIN", 17 PA7 (io) "PA7/SPI1_MOSI/ADC12_IN7/TIM3_CH2/TIM1_CH1N", 18 PB0 (io) "PB0/ADC12_IN8/TIM3_CH3/TIM1_CH2N", 19 PB1 (io) "PB1/ADC12_IN9/TIM3_CH4/TIM1_CH3N", 20 PB2 (io) "PB2/BOOT1", 21 PB10 (io) "PB10/I2C2_SCL/USART3_TX/TIM2_CH3", 22 PB11 (io) "PB11/I2C2_SDA/USART3_RX/TIM2_CH4", 25 PB12 (io) "PB12/SPI2_NSS/I2C2_SMBAl/USART3_CK/TIM1_BKIN", 26 PB13 (io) "PB13/SPI2_SCK/USART3_CTS/TIM1_CH1N", 27 PB14 (io) "PB14/SPI2_MISO/USART3_RTS/TIM1_CH2N", 28 PB15 (io) "PB15/SPI2_MOSI/TIM1_CH3N", 29 PA8 (io) "PA8/USART1_CK/TIM1_CH1/MCO", 30 PA9 (io) "PA9/USART1_TX/TIM1_CH2", 31 PA10 (io) "PA10/USART1_RX/TIM1_CH3", 32 PA11 (io) "PA11/USART1_CTS/CANRX/USBDM/TIM1_CH4", 33 PA12 (io) "PA12/USART1_RTS/CANTX/USBDP/TIM1_ETR", 34 PA13 (io) "PA13/JTMS/SWDIO", 37 PA14 (io) "PA14/JTCK/SWCLK", 38 PA15 (io) "PA15/JTDI/TIM2_CH1_ETR/SPI1_NSS", 39 PB3 (io) "PB3/JTDO/TIM2_CH2/TRACESWO/SPI1_SCK", 40 PB4 (io) "PB4/NJTRST/TIM3_CH1/SPI1_MISO", 41 PB5 (io) "PB5/I2C1_SMBAI/TIM3_CH2/SPI1_MOSI", 42 PB6 (io) "PB6/I2C1_SCL/TIM4_CH1/USART1_TX", 43 PB7 (io) "PB7/I2C1_SDA/TIM4_CH2/USART1_RX", 44 BOOT0 (in), 45 PB8 (io) "PB8/TIM4_CH3/I2C1_SCL/CANRX", 46 PB9 (io) "PB9/TIM4_CH4/I2C1_SDA/CANTX"
part B pins: 1 VBAT (power), 8 VSSA (power), 9 VDDA (power), 23 VSS_1 (power), 24 VDD_1 (power), 35 VSS_2 (power), 36 VDD_2 (power), 47 VSS_3 (power), 48 VDD_3 (power)

## CMP-1035-00783-3
designator C?, comment 20pF
CAP CER 20PF 50V 5% NP0 0603; Manufacturer Part Number: C0603C200J5GACTU; Manufacturer: KEMET; Temperature Coefficient: 30ppm/°C; Temperature Characteristic: C0G; Automotive Grade: Grade 1; Tolerance: 0.05; Material: Ceramic; Category: Cap; Temperature Range Low: -55°C; RoHS: TRUE; ComponentLink2URL: https://api.kemet.com/component-edge/download/datasheet/C0603C100J5GACAUTO.pdf; Package: C0603C-CF; Height: 0.87mm; Capacitance: 20 pF; Voltage Rating: 50 V; Octopart: https://octopart.com/c0603c200j5gactu-kemet-9138585; Device Class L1: Passive Components; Automotive: Yes; Digikey Description: CAP CER 20PF 50V 5% NP0 0603; Temperature Range High: +125°C; Device Class L3: Ceramic Capacitors; Mouser Description: Multilayer Ceramic Capacitors MLCC - SMD/SMT 50volts 20pF C0G 5%; ComponentLink2Description: Datasheet; Device Class L2: Capacitors; Lead Free: Yes; Temperature: -55°C to +125°C; Value: 20 pF
footprint FP-C0603C-CF-MFG
footprint FP-C0603C-CF-IPC_C
footprint FP-C0603C-CF-IPC_B
footprint FP-C0603C-CF-IPC_A
pins: 1, 2

## CMP-1048-00587-1
designator Q?, comment MMBT2907ALT3G
General Purpose Transistor, PNP Silicon, 3-Pin SOT-23, Pb-Free, Tape and Reel; Manufacturer: ON Semiconductor; Collector Emitter Voltage (VCEO): 60V; Max Power Dissipation: 300mW; Max Collector Current: 600mA; Emitter Base Voltage (VEBO): 5V; Element Configuration: Single; hFE Min: 75; Number of Elements: 1; Collector Emitter Saturation Voltage: -1.6V; Gain Bandwidth Product: 200MHz; Collector-emitter Voltage-Max: 1.6V; Voltage Rating (DC): -60V; Current Rating: -600mA; Max Frequency: 100MHz; ComponentLink1Description: Manufacturer URL; ComponentLink2Description: Datasheet; ComponentLink2URL: http://www.onsemi.cn/pub_link/Collateral/MMBT2907ALT1-D.PDF; ComponentLink1URL: http://www.onsemi.com/; ComponentLink3Description: Package Specification; ComponentLink3URL: http://www.onsemi.cn/pub_link/Collateral/318-08.PDF; Supplier 1: Digi-Key; Supplier Part Number 1: MMBT2907ALT3GOSCT-ND; Manufacturer Part Number: MMBT2907ALT3G; RoHS: Yes; Category: BJTs; Stock 1: 3486; Pricing 1: 1=0,18000, 10=0,16100, 25=0,15360, 100=0,08790, 500=0,05410, 1000=0,03689, 2500=0,03136, 5000=0,02828 (USD); Case/Package: SOT-23-3; Number of Pins: 3; Contact Plating: Tin,Matte; Min Operating Temperature: -55°C; Max Operating Temperature: 150°C; Packaging: Tape and Reel; Polarity: PNP; Package Quantity: 10000; Collector Base Voltage (VCBO): 60V; Collector Emitter Breakdown Voltage: 60V; Power Dissipation: 300mW; Frequency: 200MHz; Transition Frequency: 200MHz; Max Breakdown Voltage: 60V; Series: -; Length: 3.04mm; Width: 1.4mm; Height: 1.01mm; Radiation Hardening: No; RoHS Compliant: Yes; Lead Free: Lead Free; REACH SVHC: No SVHC; ComponentLink4URL: https://datasheet.ciiva.com/980/mmbt2907alt1-d-980631.pdf?src-supplier=Digi-Key; ComponentLink4Description: https://datasheet.ciiva.com/980/mmbt2907alt1-d-980631.pdf?src-supplier=Digi-Key; ComponentLink5URL: https://datasheet.ciiva.com/16390/mmbt2907alt1-d-16390999.pdf?src-supplier=Future+Electronics; ComponentLink5Description: https://datasheet.ciiva.com/16390/mmbt2907alt1-d-16390999.pdf?src-supplier=Future+Electronics; ComponentLink6URL: https://datasheet.ciiva.com/980/mmbt2907alt1-d-980632.pdf?src-supplier=Digi-Key; ComponentLink6Description: https://datasheet.ciiva.com/980/mmbt2907alt1-d-980632.pdf?src-supplier=Digi-Key; ComponentLink7URL: https://datasheet.ciiva.com/11198/mmbt2907alt1-d-11198984.pdf?src-supplier=Avnet; ComponentLink7Description: https://datasheet.ciiva.com/11198/mmbt2907alt1-d-11198984.pdf?src-supplier=Avnet; ComponentLink8URL: https://datasheet.ciiva.com/980/mmbt2907alt1-d-980633.pdf?src-supplier=Digi-Key; ComponentLink8Description: https://datasheet.ciiva.com/980/mmbt2907alt1-d-980633.pdf?src-supplier=Digi-Key; ComponentLink9URL: https://datasheet.ciiva.com/7972/mmbt2907alt1-d-7972377.pdf?src-supplier=Element14; ComponentLink9Description: https://datasheet.ciiva.com/7972/mmbt2907alt1-d-7972377.pdf?src-supplier=Element14; ComponentLink10URL: https://datasheet.ciiva.com/11198/mmbt2907alt1-d-11198986.pdf?src-supplier=Avnet; ComponentLink10Description: https://datasheet.ciiva.com/11198/mmbt2907alt1-d-11198986.pdf?src-supplier=Avnet
footprint ONSC-SOT-23-3-318-08_V (SOT23, 3-Leads, Body 2.92x1.3mm, Pitch 0.95mm)
pins: 1 B, 2 E, 3 C

## CMP-1055-00478-1
designator D?, comment NSRLL30XV2T1G
Schottky Barrier Diode, 2-Pin SOD-523, Pb-Free, Tape and Reel; Manufacturer: On Semiconductor; Configuration: Single; PackageReference: SOD-523-2-502-01; PackageVersion: Rev. E, 09/2010; ComponentLink1Description: Manufacturer URL; ComponentLink2URL: http://www.onsemi.cn/pub_link/Collateral/NSRLL30XV2-D.PDF; PartNumber: NSRLL30XV2T1G; PackageDescription: 2-Pin SOD, Body 1.2 x 0.8 mm; RoHS: TRUE; Mounting Technology: Surface Mount; ComponentLink3URL: http://www.onsemi.com/pub_link/Collateral/502-01.PDF; ComponentLink3Description: Package Specification; Packing: Tape and Reel; ComponentLink2Description: Datasheet; DatasheetVersion: Rev. 1; ComponentLink1URL: http://www.onsemi.com/; Manufacturer: ON Semiconductor; Manufacturer Part Number: NSRLL30XV2T1G
footprint ONSC-SOD-523-2-502-01_V (SOD, 2-Leads, Body 1.2x0.8mm)
pins: 1 K, 2 A

## CMP-1055-00478-1_1
designator D?, comment NSRLL30XV2T1G
Schottky Barrier Diode, 2-Pin SOD-523, Pb-Free, Tape and Reel; Manufacturer: On Semiconductor; Configuration: Single; PackageReference: SOD-523-2-502-01; PackageVersion: Rev. E, 09/2010; ComponentLink1Description: Manufacturer URL; ComponentLink2URL: http://www.onsemi.cn/pub_link/Collateral/NSRLL30XV2-D.PDF; PartNumber: NSRLL30XV2T1G; PackageDescription: 2-Pin SOD, Body 1.2 x 0.8 mm; RoHS: TRUE; Mounting Technology: Surface Mount; ComponentLink3URL: http://www.onsemi.com/pub_link/Collateral/502-01.PDF; ComponentLink3Description: Package Specification; Packing: Tape and Reel; ComponentLink2Description: Datasheet; DatasheetVersion: Rev. 1; ComponentLink1URL: http://www.onsemi.com/; Manufacturer: ON Semiconductor; Manufacturer Part Number: NSRLL30XV2T1G
footprint ONSC-SOD-523-2-502-01_V (SOD, 2-Leads, Body 1.2x0.8mm)
pins: 1 K, 2 A

## CMP-1502-00494-2
designator P?, comment 64900421122
NexarPartId: 8917579; Manufacturer: Wurth Electronics; Lead Length: 3.5mm; Pitch: 4.2mm; Number of Contacts: 4; Contact Resistance: 10mΩ; Gender: Male; Connector Type: Male Pin, Socket; Voltage Rating: 600V; Insulation Resistance: 1GΩ; Row Spacing: 5.5118mm; Current Rating: 8A; RoHS: Compliant; Number of Rows: 2; Housing Material: Nylon; Min Operating Temperature: -40°C; Flammability Rating: UL94 V-0; Contact Plating: Tin; REACH SVHC: Unknown; Orientation: Vertical; Contact Material: Copper; Mount: Through Hole; Max Operating Temperature: 105°C; Number of Pins: 4; Width: 9.7mm; Termination: Through Hole; Lead Pitch: 4.2mm; Number of Positions: 4; Contact Gender: Male; Color: White; Height: 12.8mm; Fastening Type: Ramp; Operating Supply Voltage: 600V; Length: 9.6mm; Manufacturer Part Number: 64900421122
footprint 64900421122 (Connector, 4.20mm Male Dual Row Vertical Header, 4 Pins, WR-MPC4)
pins: 1, 2, 3, 4